# EAGLE library part FLAT-FLEX-CONNECTOR-RA-07POS (library FlashPCB_Connectors)
FLAT-FLEX-CONNECTOR-RA-07POS - Flat Flex Connector 7 position Right Angle Technical Specifications: Number of Positions: 7 Contact: Top or Bottom Mount: Right Angle
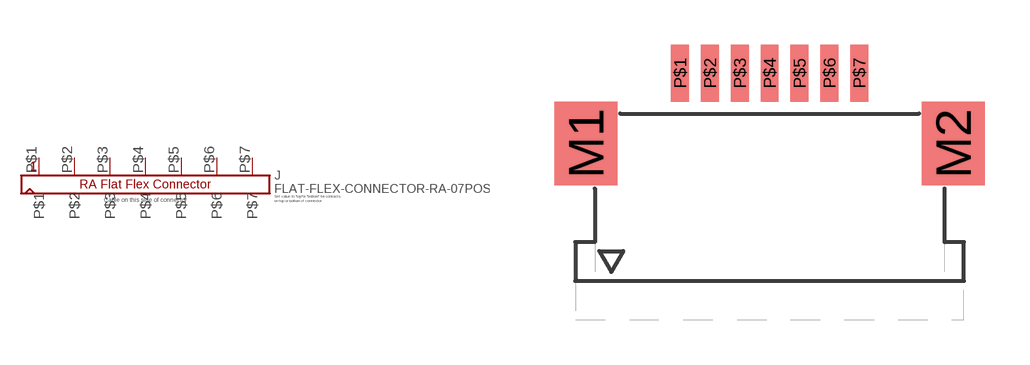
[diagram p105: symbol with the pads of FLAT-FLEX-CONNECTOR-MOLEX-522XX-RA-07POS; footprint FLAT-FLEX-CONNECTOR-MOLEX-522XX-RA-07POS]

Designator prefix J

## FLAT-FLEX-CONNECTOR-RA-07POS1MM-PITCH  [FLAT-FLEX-CONNECTOR-MOLEX-522XX-RA-07POS]
P$1  P$1
P$2  P$2
P$3  P$3
P$4  P$4
P$5  P$5
P$6  P$6
P$7  P$7

## Footprint FLAT-FLEX-CONNECTOR-MOLEX-522XX-RA-07POS (pad centres in mm)
smd 2.1 x 2.8: M1 -6.15,-1.4; M2 6.15,-1.4
smd 0.6 x 1.9: P$1 -3,0.95; P$2 -2,0.95; P$3 -1,0.95; P$4 0,0.95; P$5 1,0.95; P$6 2,0.95; P$7 3,0.95